# Altium schematic symbol library ARJM11.SchLib: 1 symbol
Pins are listed as number, name and electrical type; pins without a type are passive.

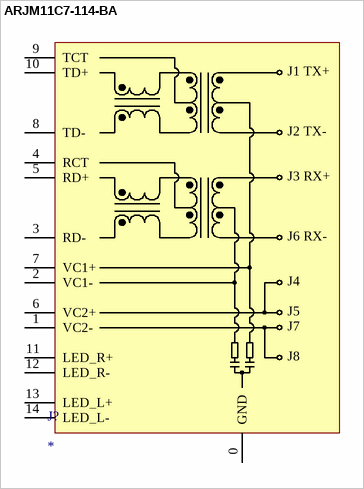
[diagram p0: symbol ARJM11C7-114-BA]

## ARJM11C7-114-BA
designator J?
pins: 0 GND (power), 1 VC2- (power), 2 VC1- (power), 3 RD- (power), 4 RCT (power), 5 RD+ (power), 6 VC2+ (power), 7 VC1+ (power), 8 TD- (power), 9 TCT (power), 10 TD+ (power), 11 LED_R+ (power), 12 LED_R- (power), 13 LED_L+ (power), 14 LED_L- (power)
text: J1 TX+; J2 TX-; J3 RX+; J6 RX-; J4; J5; J7; J8